# EAGLE library part UM04_RS_232C_IF (library PartsForProto)
UM04接続用インターフェース
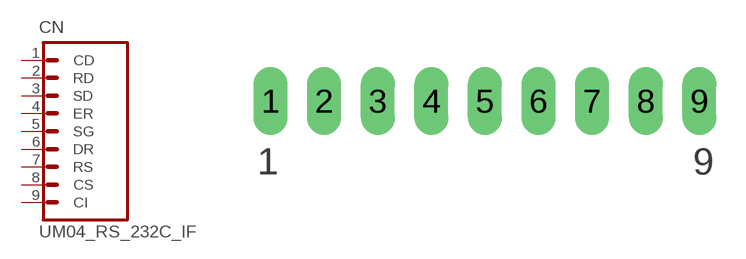
[diagram p21: symbol with the pads of UM04_RS_232C_IF_9PIN; footprint UM04_RS_232C_IF_9PIN]

Designator prefix CN

## UM04_RS_232C_IF  [UM04_RS_232C_IF_9PIN]
1  CD
2  RD
3  SD
4  ER
5  SG  pas
6  DR
7  RS
8  CS
9  CI

## Footprint UM04_RS_232C_IF_9PIN (pad centres in mm)
PIN HEADER
drill 1 pad 1.6 long: 1 0,0; 2 2.54,0; 3 5.08,0; 4 7.62,0; 5 10.16,0; 6 12.7,0; 7 15.24,0; 8 17.78,0; 9 20.32,0